# EAGLE library part PT4115 (library JLB6_power)
LED driver with dimming, 30V 1,2A
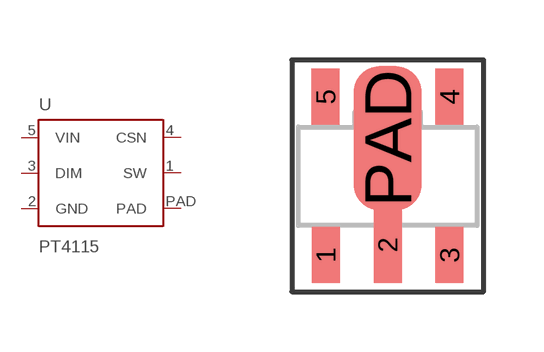
[diagram p17: symbol with the pads of SOT89-5; footprint SOT89-5]

Designator prefix U

## PT4115  [SOT89-5]
1  SW  out
2  GND  pwr
3  DIM
4  CSN  in
5  VIN  in
PAD  PAD  pwr

## Footprint SOT89-5 (pad centres in mm)
Small Outline Transistor
smd 0.7 x 1.4: 1 -1.549,-1.981; 3 1.549,-1.981; 4 1.549,1.981; 5 -1.551,1.981
smd 0.7 x 1.9: 2 0,-1.727
smd 1.7 x 3.6: PAD 0,0.94